# EAGLE library part NEO-M8-GNSS (library FlashPCB_ICs)
NEO-M8-GNSS - u-blox M8 Untethered Dead Reckoning module with 3D sensors Technical Specifications: Professional Grade(Not Automotive) Interfaces: UART, USB 2.0, SPI, DDC(I2C) Component Search: NEO-M8U-06B <https://www.flashpcb.com/components> Datasheet: NEO-M8U <https://media.digikey.com/pdf/Data%20Sheets/U-Blox%20PDFs/NEO-M8U.pdf>
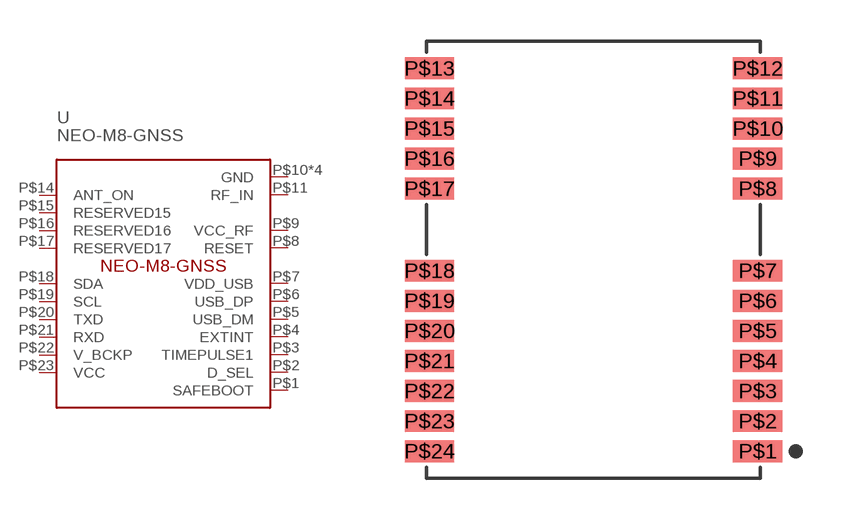
[diagram p65: symbol with the pads of NEO-M8; footprint NEO-M8]

Designator prefix U

## NEO-M8-GNSS  [NEO-M8]
P$1  SAFEBOOT
P$2  D_SEL
P$3  TIMEPULSE1
P$4  EXTINT
P$5  USB_DM
P$6  USB_DP
P$7  VDD_USB
P$8  RESET
P$9  VCC_RF
P$10  GND
P$11  RF_IN
P$12  GND
P$13  GND
P$14  ANT_ON
P$15  RESERVED15
P$16  RESERVED16
P$17  RESERVED17
P$18  SDA
P$19  SCL
P$20  TXD
P$21  RXD
P$22  V_BCKP
P$23  VCC
P$24  GND

## Footprint NEO-M8 (pad centres in mm)
smd 1.8 x 0.8: P$1 6,-7; P$2 6,-5.9; P$3 6,-4.8; P$4 6,-3.7; P$5 6,-2.6; P$6 6,-1.5; P$7 6,-0.4; P$8 6,2.6; P$9 6,3.7; P$10 6,4.8; P$11 6,5.9; P$12 6,7; P$13 -6,7; P$14 -6,5.9; P$15 -6,4.8; P$16 -6,3.7; P$17 -6,2.6; P$18 -6,-0.4; P$19 -6,-1.5; P$20 -6,-2.6; P$21 -6,-3.7; P$22 -6,-4.8; P$23 -6,-5.9; P$24 -6,-7